# Altium schematic symbol library 4.4 - ADC模数转换器件.SchLib: 29 symbols
Pins are listed as number, name and electrical type; pins without a type are passive.

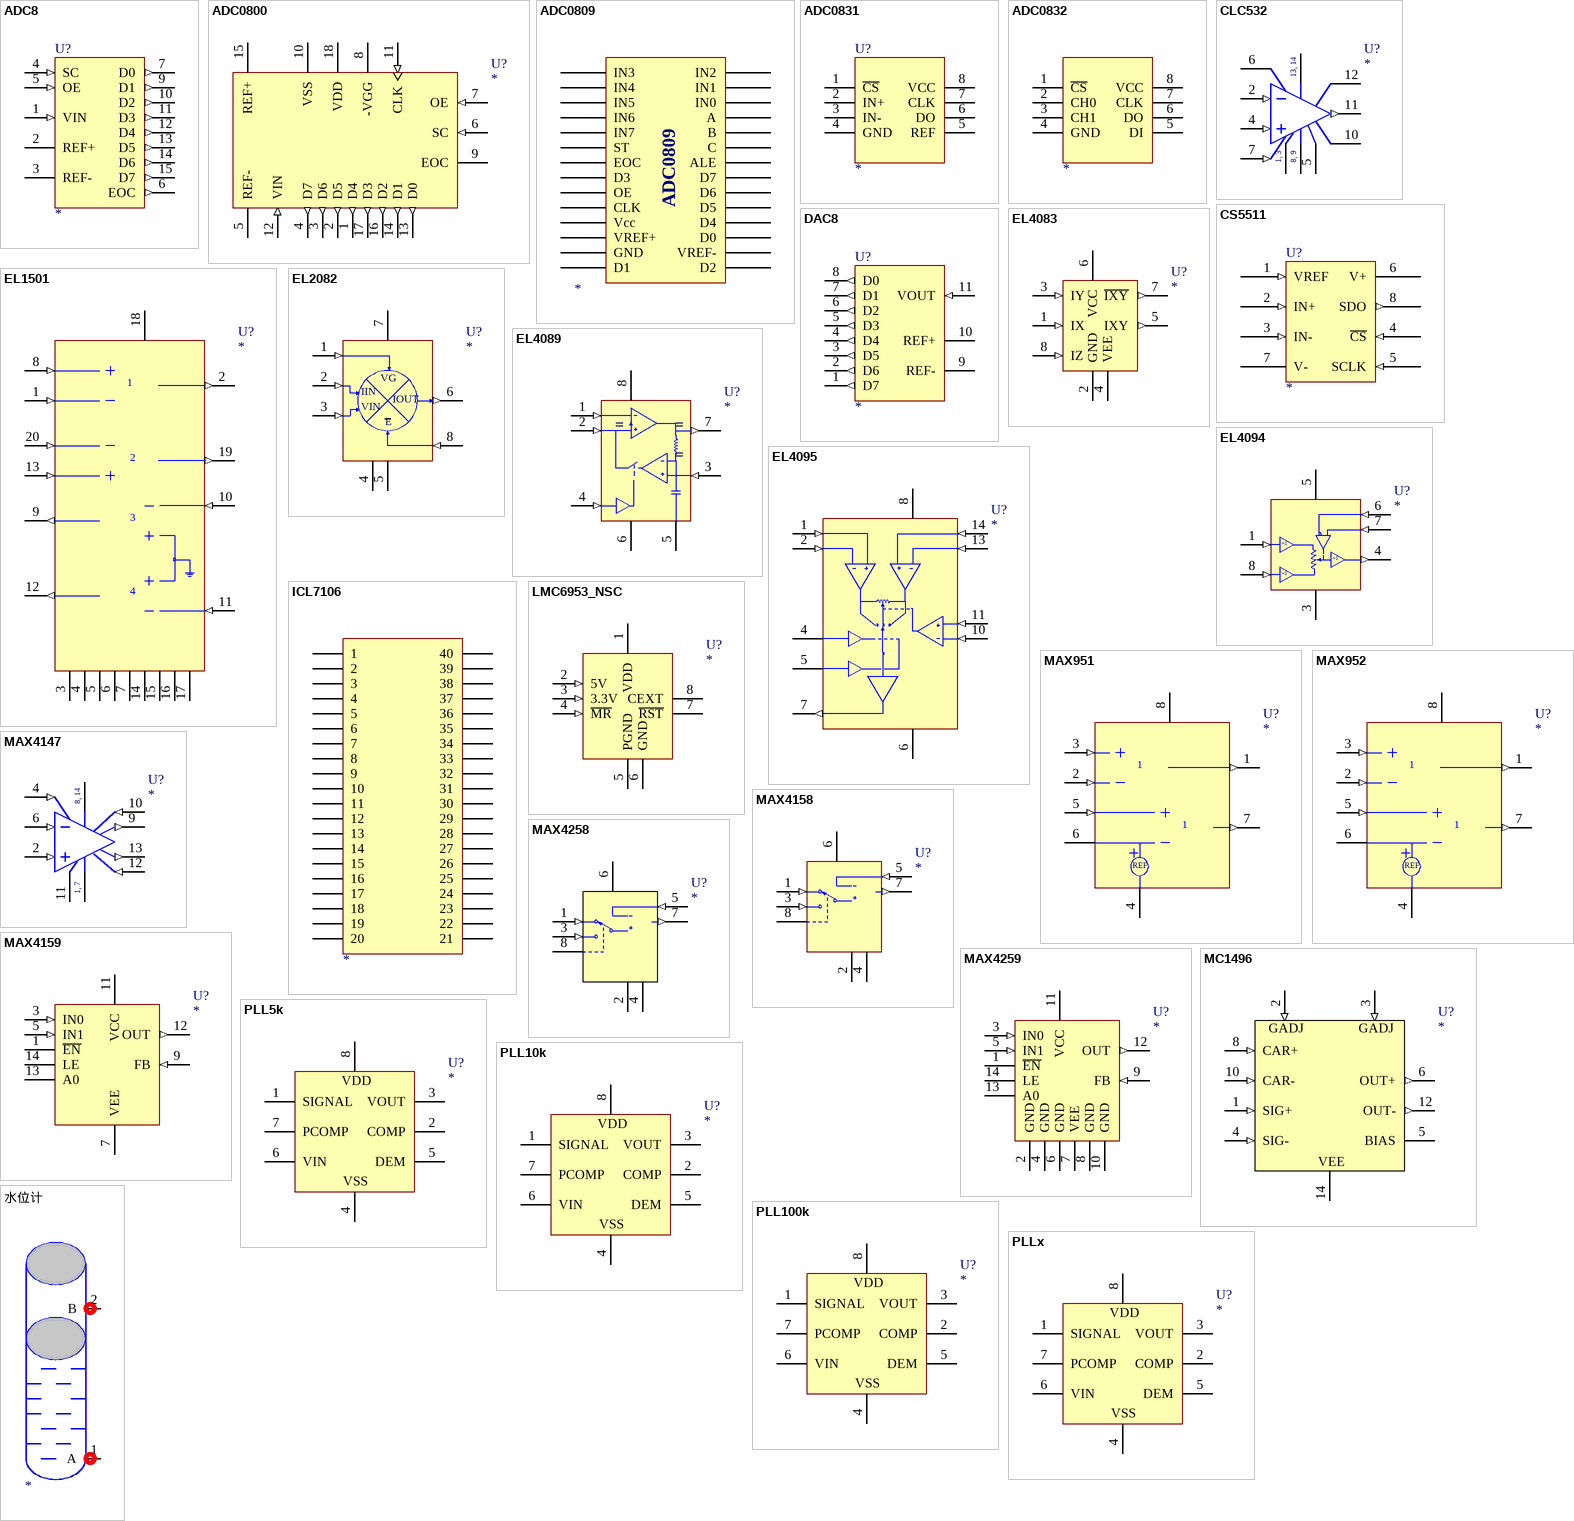
[diagram p0: symbols ADC8 to 水位计]

## ADC8
designator U?
Generic 8-Bit A/D Converter; 封装库来自淘宝卖家 ID：黄晶宝石: 其他店铺购入均为盗版，不享受售后技术支持服务，请立即申请退款; 联系卖家，免费技术支持: 唯一出售店铺网址https://shop463601444.taobao.com
simulation model ADC8 (SIMCODE)
pins: 1 VIN (in), 2 REF+, 3 REF-, 4 SC (in), 5 OE (in), 6 EOC (out), 7 D0 (out), 8 GND (power) hidden to GND, 9 D1 (out), 10 D2 (out), 11 D3 (out), 12 D4 (out), 13 D5 (out), 14 D6 (out), 15 D7 (out), 16 VCC (power) hidden to VCC

## ADC0800
designator U?
National 8-Bit Analog to Digital Converter; 封装库来自淘宝卖家 ID：黄晶宝石: 其他店铺购入均为盗版，请立即申请退款; 联系卖家，免费技术支持: 唯一出售店铺网址https://shop463601444.taobao.com
footprint DIP-18
simulation model ADC0800 (SUBCKT)
pins: 1 D4 (out), 2 D5 (out), 3 D6 (out), 4 D7 (out), 5 REF-, 6 SC (in), 7 OE (in), 8 -VGG (power), 9 EOC, 10 VSS (power), 11 CLK (in), 12 VIN (in), 13 D0 (out), 14 D1 (out), 15 REF+, 16 D2 (out), 17 D3 (out), 18 VDD (power)

## ADC0809
designator ?
封装库来自淘宝卖家 ID：黄晶宝石: 其他店铺购入均为盗版，请立即申请退款; 联系卖家，免费技术支持: 唯一出售店铺网址https://shop463601444.taobao.com
footprint DIP-28W (37.3*15.3*4长宽高）)
pins: 1 IN3, 2 IN4, 3 IN5, 4 IN6, 5 IN7, 6 ST, 7 EOC, 8 D3, 9 OE, 10 CLK, 11 Vcc, 12 VREF+, 13 GND, 14 D1, 15 D2, 16 VREF-, 17 D0, 18 D4, 19 D5, 20 D6, 21 D7, 22 ALE, 23 C, 24 B, 25 A, 26 IN0, 27 IN1, 28 IN2

## ADC0831
designator U?
ADC; 封装库来自淘宝卖家 ID：黄晶宝石: 其他店铺购入均为盗版，请立即申请退款; 联系卖家，免费技术支持: 唯一出售店铺网址https://shop463601444.taobao.com
footprint DIP-8 (9.4*7.6*3.8(长宽高）)
pins: 1 ~{CS}, 2 IN+, 3 IN-, 4 GND, 5 REF, 6 DO, 7 CLK, 8 VCC

## ADC0832
designator ?
封装库来自淘宝卖家 ID：黄晶宝石: 其他店铺购入均为盗版，请立即申请退款; 联系卖家，免费技术支持: 唯一出售店铺网址https://shop463601444.taobao.com
footprint DIP-8 (9.4*7.6*3.8(长宽高）)
pins: 1 ~{CS}, 2 CH0, 3 CH1, 4 GND, 5 DI, 6 DO, 7 CLK, 8 VCC

## CLC532
designator U?
High-Speed 2:1 Analog Multiplexer; 封装库来自淘宝卖家 ID：黄晶宝石: 其他店铺购入均为盗版，请立即申请退款; 联系卖家，免费技术支持: 唯一出售店铺网址https://shop463601444.taobao.com
footprint DIP-14
simulation model CLC532 (SUBCKT)
pins: 1 GND (power), 2 INA- (in), 3 GND (power), 4 INB+ (in), 5 DGND (power), 6 DREF, 7 SEL (in), 8 VEE (power), 9 VEE (power), 10 COMP2, 11 OUT (out), 12 COMP1, 13 VCC (power), 14 VCC (power)
text: 13, 14; 1, 3; 8, 9

## CS5511
designator U?
National 16-Bit Analog to Digital Converter; 封装库来自淘宝卖家 ID：黄晶宝石: 其他店铺购入均为盗版，请立即申请退款; 联系卖家，免费技术支持: 唯一出售店铺网址https://shop463601444.taobao.com
footprint SOIC-8_150mil (封装库来自淘宝卖家 ID：黄晶宝石)
pins: 1 VREF (in), 2 IN+ (in), 3 IN- (in), 4 ~{CS} (in), 5 SCLK (in), 6 V+ (power), 7 V- (power), 8 SDO (out)

## DAC8
designator U?
Generic 8-Bit D/A Converter; 封装库来自淘宝卖家 ID：黄晶宝石: 其他店铺购入均为盗版，请立即申请退款; 联系卖家，免费技术支持: 唯一出售店铺网址https://shop463601444.taobao.com
simulation model DAC8 (SIMCODE)
pins: 1 D7 (out), 2 D6 (out), 3 D5 (out), 4 D4 (out), 5 D3 (out), 6 D2 (out), 7 D1 (out), 8 D0 (out), 9 REF-, 10 REF+, 11 VOUT (in), 12 GND (power) hidden to GND, 13 VCC (power) hidden to VCC

## EL1501
designator U?
Differential line Driver/Receiver; 封装库来自淘宝卖家 ID：黄晶宝石: 其他店铺购入均为盗版，请立即申请退款; 联系卖家，免费技术支持: 唯一出售店铺网址https://shop463601444.taobao.com
footprint DIP-20
simulation model EL1501 (SUBCKT)
pins: 1 DRV+ IN- (in), 2 DRV+ OUT (out), 3 VEE (power), 4 GND (power), 5 GND (power), 6 GND (power), 7 GND (power), 8 DRV+ IN+ (in), 9 RX+ OUT1 (out), 10 RX+ IN1- (in), 11 RX- IN2- (in), 12 RX- OUT2 (out), 13 DRV- IN+ (in), 14 GND (power), 15 GND (power), 16 GND (power), 17 GND (power), 18 VCC (power), 19 DRV- OUT (out), 20 DRV- IN- (in)

## EL2082
designator U?
Current-Mode Multiplier; 封装库来自淘宝卖家 ID：黄晶宝石: 其他店铺购入均为盗版，请立即申请退款; 联系卖家，免费技术支持: 唯一出售店铺网址https://shop463601444.taobao.com
footprint DIP-8
simulation model EL2082 (SUBCKT)
pins: 1 VG (in), 2 IIN (in), 3 VIN (in), 4 VEE (power), 5 GND (power), 6 IOUT (out), 7 VCC (power), 8 ~{E} (in)
text: E

## EL4083
designator U?
Current Mode Four Quadrant Multiplier; 封装库来自淘宝卖家 ID：黄晶宝石: 其他店铺购入均为盗版，请立即申请退款; 联系卖家，免费技术支持: 唯一出售店铺网址https://shop463601444.taobao.com
footprint DIP-8
simulation model EL4083 (SUBCKT)
pins: 1 IX (in), 2 GND (power), 3 IY (in), 4 VEE (power), 5 IXY (out), 6 VCC (power), 7 ~{IXY} (out), 8 IZ (in)

## EL4089
designator U?
DC Restored Video Amplifier; 封装库来自淘宝卖家 ID：黄晶宝石: 其他店铺购入均为盗版，请立即申请退款; 联系卖家，免费技术支持: 唯一出售店铺网址https://shop463601444.taobao.com
footprint DIP-8
simulation model EL4089 (SUBCKT)
pins: 1 IN- (in), 2 IN+ (in), 3 S/H (in), 4 HOLD (in), 5 GND (power), 6 V- (power), 7 OUT (out), 8 V+ (power)

## EL4094
designator U?
Video Gain Control/Fader; 封装库来自淘宝卖家 ID：黄晶宝石: 其他店铺购入均为盗版，请立即申请退款; 联系卖家，免费技术支持: 唯一出售店铺网址https://shop463601444.taobao.com
footprint DIP-8
simulation model EL4094 (SUBCKT)
pins: 1 INB (in), 2 GND (power) hidden to GND, 3 V- (power), 4 OUT (out), 5 V+ (power), 6 ~{VG} (in), 7 VG (in), 8 INA (in)
text: +1

## EL4095
designator U?
Video Gain Contol/Fader/Multiplexer; 封装库来自淘宝卖家 ID：黄晶宝石: 其他店铺购入均为盗版，请立即申请退款; 联系卖家，免费技术支持: 唯一出售店铺网址https://shop463601444.taobao.com
footprint DIP-14
simulation model EL4095 (SUBCKT)
pins: 1 +INB (in), 2 -INB (in), 3 GND (power) hidden to GND, 4 ~{FORCE A}, 5 ~{FORCE B}, 6 V- (power), 7 V OUT (out), 8 V+ (power), 10 ~{V G} (in), 11 V G (in), 13 -INA (in), 14 +INA (in)

## ICL7106
designator ?
封装库来自淘宝卖家 ID：黄晶宝石: 其他店铺购入均为盗版，请立即申请退款; 联系卖家，免费技术支持: 唯一出售店铺网址https://shop463601444.taobao.com
footprint DIP-40 (淘宝ID:黄晶宝石   店铺网址:https://shop463601444.taobao.com)
pins: 1, 2, 3, 4, 5, 6, 7, 8, 9, 10, 11, 12, 13, 14, 15, 16, 17, 18, 19, 20, 21, 22, 23, 24, 25, 26, 27, 28, 29, 30, 31, 32, 33, 34, 35, 36, 37, 38, 39, 40

## LMC6953_NSC
designator U?
PCI Local Bus Power Supervisor; 封装库来自淘宝卖家 ID：黄晶宝石: 其他店铺购入均为盗版，请立即申请退款; 联系卖家，免费技术支持: 唯一出售店铺网址https://shop463601444.taobao.com
footprint SO8
simulation model LMC6953_NSC (SUBCKT)
pins: 1 VDD (power), 2 5V (in), 3 3.3V (in), 4 ~{MR} (in), 5 PGND (power), 6 GND (power), 7 ~{RST} (oc), 8 CEXT

## MAX951
designator U?
Ultra-Low-Power, Single-Supply Op Amp + Comparator + Reference; 封装库来自淘宝卖家 ID：黄晶宝石: 其他店铺购入均为盗版，请立即申请退款; 联系卖家，免费技术支持: 唯一出售店铺网址https://shop463601444.taobao.com
simulation model MAX951 (SUBCKT)
pins: 1 AMPOUT (out), 2 AMPIN- (in), 3 AMPIN+ (in), 4 VEE (power), 5 COMPIN+ (in), 6 REF/COMPIN-, 7 COMPOUT (out), 8 VCC (power)
text: REF

## MAX952
designator U?
Ultra-Low-Power, Single-Supply Op Amp + Comparator + Reference; 封装库来自淘宝卖家 ID：黄晶宝石: 其他店铺购入均为盗版，请立即申请退款; 联系卖家，免费技术支持: 唯一出售店铺网址https://shop463601444.taobao.com
simulation model MAX952 (SUBCKT)
pins: 1 AMPOUT (out), 2 AMPIN- (in), 3 AMPIN+ (in), 4 VEE (power), 5 COMPIN+ (in), 6 REF/COMPIN-, 7 COMPOUT (out), 8 VCC (power)
text: REF

## MAX4147
designator U?
300MHz, Low-Power, High-Output-Current, Differential Line Driver; 封装库来自淘宝卖家 ID：黄晶宝石: 其他店铺购入均为盗版，请立即申请退款; 联系卖家，免费技术支持: 唯一出售店铺网址https://shop463601444.taobao.com
simulation model MAX4147 (SUBCKT)
pins: 1 VEE (power), 2 IN+ (in), 4 SD (in), 6 IN- (in), 7 VEE (power), 8 VCC (power), 9 OUT- (out), 10 SEN- (in), 11 GND (power), 12 SEN+ (in), 13 OUT+ (out), 14 VCC (power)
text: 8, 14; 1, 7

## MAX4158
designator U?
350MHz 2-Channel Video Multiplexer-Amplifier; 封装库来自淘宝卖家 ID：黄晶宝石: 其他店铺购入均为盗版，请立即申请退款; 联系卖家，免费技术支持: 唯一出售店铺网址https://shop463601444.taobao.com
simulation model MAX4158 (SUBCKT)
pins: 1 IN0 (in), 2 GND (power), 3 IN1 (in), 4 VEE (power), 5 FB (in), 6 VCC (power), 7 OUT (out), 8 A0

## MAX4159
designator U?
350MHz 2-Channel Video Multiplexer-Amplifier; 封装库来自淘宝卖家 ID：黄晶宝石: 其他店铺购入均为盗版，请立即申请退款; 联系卖家，免费技术支持: 唯一出售店铺网址https://shop463601444.taobao.com
simulation model MAX4159 (SUBCKT)
pins: 1 ~{EN}, 2 GND (power) hidden to GND, 3 IN0 (in), 4 GND (power) hidden to GND, 5 IN1 (in), 6 GND (power) hidden to GND, 7 VEE (power), 8 GND (power) hidden to GND, 9 FB (in), 10 GND (power) hidden to GND, 11 VCC (power), 12 OUT (out), 13 A0, 14 LE

## MAX4258
designator U?
250MHz, 2-Channel Video Multiplexer-Amplifier; 封装库来自淘宝卖家 ID：黄晶宝石: 其他店铺购入均为盗版，请立即申请退款; 联系卖家，免费技术支持: 唯一出售店铺网址https://shop463601444.taobao.com
simulation model MAX4258 (SUBCKT)
pins: 1 IN0 (in), 2 GND (power), 3 IN1 (in), 4 VEE (power), 5 FB (in), 6 VCC (power), 7 OUT (out), 8 A0

## MAX4259
designator U?
250MHz 2-Channel Video Multiplexer-Amplifier; 封装库来自淘宝卖家 ID：黄晶宝石: 其他店铺购入均为盗版，请立即申请退款; 联系卖家，免费技术支持: 唯一出售店铺网址https://shop463601444.taobao.com
simulation model MAX4259 (SUBCKT)
pins: 1 ~{EN}, 2 GND (power), 3 IN0 (in), 4 GND (power), 5 IN1 (in), 6 GND (power), 7 VEE (power), 8 GND (power), 9 FB (in), 10 GND (power), 11 VCC (power), 12 OUT (out), 13 A0, 14 LE

## MC1496
designator U?
Balanced Modulator/Demodulator; 封装库来自淘宝卖家 ID：黄晶宝石: 其他店铺购入均为盗版，请立即申请退款; 联系卖家，免费技术支持: 唯一出售店铺网址https://shop463601444.taobao.com
footprint DIP-14
simulation model MC1496 (SUBCKT)
pins: 1 SIG+ (in), 2 GADJ (in), 3 GADJ (in), 4 SIG- (in), 5 BIAS, 6 OUT+ (out), 8 CAR+ (in), 10 CAR- (in), 12 OUT- (out), 14 VEE (power)

## PLL5k
designator U?
Generic Phase Locked Loop; 封装库来自淘宝卖家 ID：黄晶宝石: 其他店铺购入均为盗版，请立即申请退款; 联系卖家，免费技术支持: 唯一出售店铺网址https://shop463601444.taobao.com
simulation model PLL5k (SUBCKT)
pins: 1 SIGNAL, 2 COMP, 3 VOUT, 4 VSS, 5 DEM, 6 VIN, 7 PCOMP, 8 VDD

## PLL10k
designator U?
Generic Phase Locked Loop; 封装库来自淘宝卖家 ID：黄晶宝石: 其他店铺购入均为盗版，请立即申请退款; 联系卖家，免费技术支持: 唯一出售店铺网址https://shop463601444.taobao.com
simulation model PLL10k (SUBCKT)
pins: 1 SIGNAL, 2 COMP, 3 VOUT, 4 VSS, 5 DEM, 6 VIN, 7 PCOMP, 8 VDD

## PLL100k
designator U?
Generic Phase Locked Loop; 封装库来自淘宝卖家 ID：黄晶宝石: 其他店铺购入均为盗版，请立即申请退款; 联系卖家，免费技术支持: 唯一出售店铺网址https://shop463601444.taobao.com
simulation model PLL100k (SUBCKT)
pins: 1 SIGNAL, 2 COMP, 3 VOUT, 4 VSS, 5 DEM, 6 VIN, 7 PCOMP, 8 VDD

## PLLx
designator U?
Generic Phase Locked Loop; 封装库来自淘宝卖家 ID：黄晶宝石: 其他店铺购入均为盗版，请立即申请退款; 联系卖家，免费技术支持: 唯一出售店铺网址https://shop463601444.taobao.com
simulation model PLLx (SUBCKT)
pins: 1 SIGNAL, 2 COMP, 3 VOUT, 4 VSS, 5 DEM, 6 VIN, 7 PCOMP, 8 VDD

## 水位计
designator ?
封装库来自淘宝卖家 ID：黄晶宝石: 其他店铺购入均为盗版，请立即申请退款; 联系卖家，免费技术支持: 唯一出售店铺网址https://shop463601444.taobao.com
pins: 1 A, 2 B